# Altium footprint library NEW_PCB_2021-12-20.PcbLib: 1 footprints
Each footprint in its own frame and in the unit in brackets; x right, y up, seen from the top. Pads: shape width x height; smd on the part's side, far side on the other; paste and mask are expansions set on the pad; w line width, h text height; cw(c..) or ccw(c..) is an arc to the next point about the centre after c.
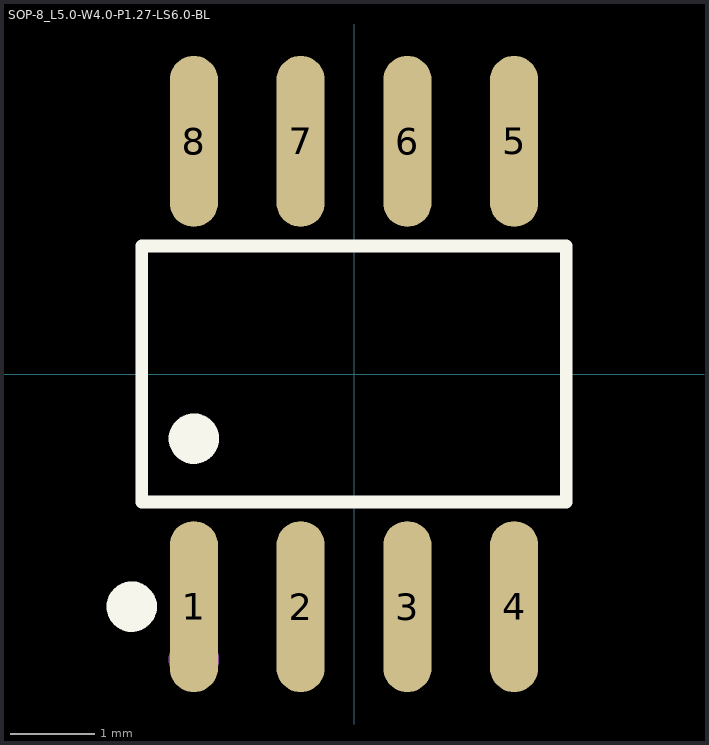
[diagram p0: the footprint, top view; thin cyan lines are the x and y axes]

## SOP-8_L5.0-W4.0-P1.27-LS6.0-BL [mil]
pads (8):
  oval 22.6x80.14 smd: 1(-75,-108.97) 2(-25,-108.97) 3(25,-108.97) 4(75,-108.97) 5(75,108.97) 6(25,108.97) 7(-25,108.97) 8(-75,108.97)
Top Overlay:
  circle w11.81: c-104.11,-108.97 r5.91
  circle w11.81: c-75,-30.28 r5.91
  lines w6: -99.46,-59.9 99.46,-59.9 99.46,59.9 -99.46,59.9 -99.46,-59.9
Mechanical 15:
  circle w11.81: c-75,-133.76 r5.91